# EAGLE library part AX5131 (library axsem_v4-11)
AXSEM TSSOP class transmitter
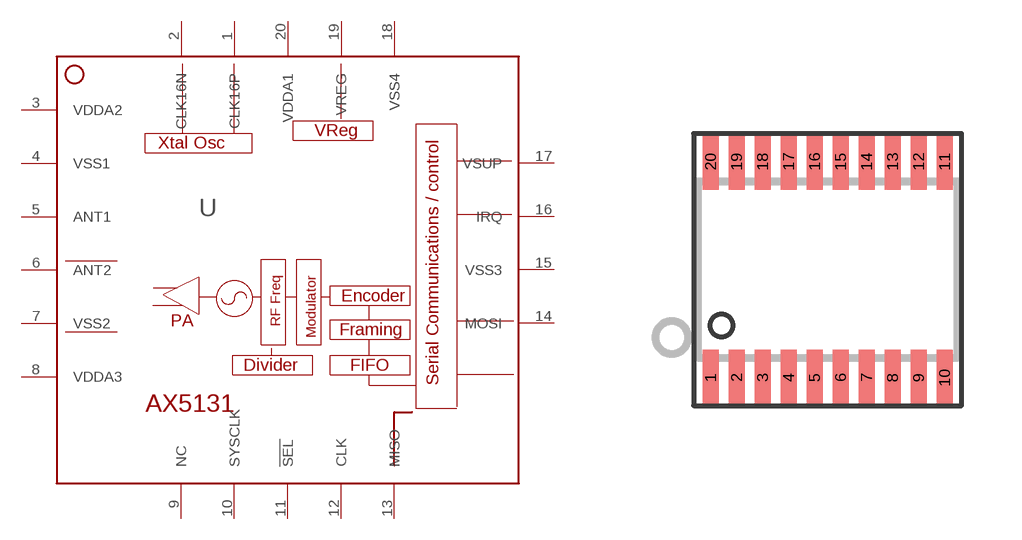
[diagram p6: symbol with the pads of TSSOP20; footprint TSSOP20]

Designator prefix U

## AX5131N  [TSSOP20]
1  CLK16P  pas
2  CLK16N  pas
3  VDDA2  pwr
4  VSS1  pwr
5  ANT1  pas
6  ANT2  pas
7  VSS2  pwr
8  VDDA3  pwr
9  NC  out
10  SYSCLK  out
11  !SEL  in
12  CLK  in
13  MISO  out
14  MOSI  in
15  VSS3  nc
16  IRQ  out
17  VSUP  pwr
18  VSS4  nc
19  VREG  pwr
20  VDDA1  pwr

## Footprint TSSOP20 (pad centres in mm)
smd 0.4 x 1.4: 1 0.325,-0.5; 2 0.975,-0.5; 3 1.625,-0.5; 4 2.275,-0.5; 5 2.925,-0.5; 6 3.575,-0.5; 7 4.225,-0.5; 8 4.875,-0.5; 9 5.525,-0.5; 10 6.175,-0.5; 11 6.175,4.9; 12 5.525,4.9; 13 4.875,4.9; 14 4.225,4.9; 15 3.575,4.9; 16 2.925,4.9; 17 2.275,4.9; 18 1.625,4.9; 19 0.975,4.9; 20 0.325,4.9